# EAGLE library part AN12941A (library Audio-Power-amplifier)
Audio power IC for notebook PC
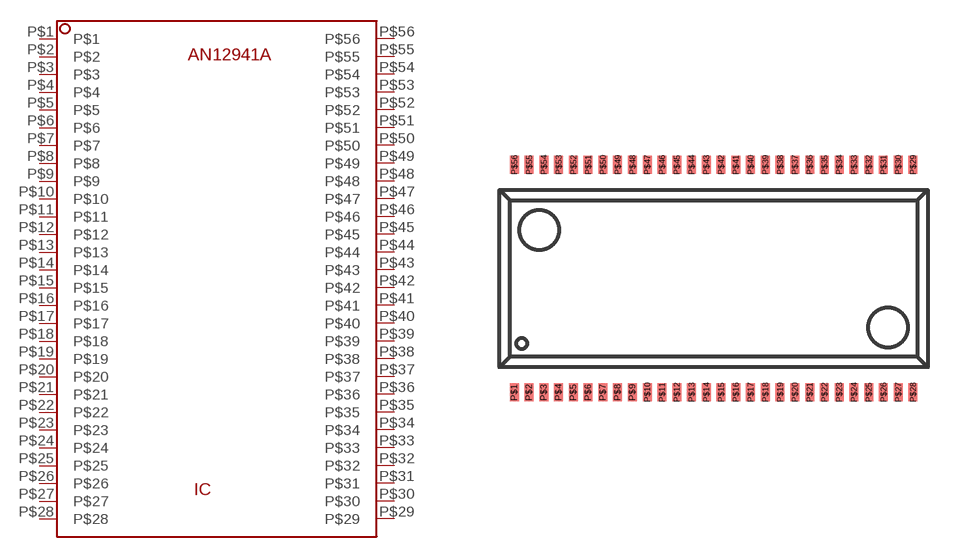
[diagram p50: symbol with the pads of HSOP056-P-0300A; footprint HSOP056-P-0300A]

Designator prefix IC

## AN12941A  [HSOP056-P-0300A]
P$1  P$1  pwr
P$2  P$2
P$3  P$3
P$4  P$4  in
P$5  P$5
P$6  P$6
P$7  P$7
P$8  P$8
P$9  P$9
P$10  P$10
P$11  P$11
P$12  P$12
P$13  P$13
P$14  P$14
P$15  P$15  pwr
P$16  P$16  in
P$17  P$17
P$18  P$18
P$19  P$19
P$20  P$20  pwr
P$21  P$21
P$22  P$22
P$23  P$23  pwr
P$24  P$24  out
P$25  P$25  out
P$26  P$26  out
P$27  P$27  out
P$28  P$28  pwr
P$29  P$29  pwr
P$30  P$30  out
P$31  P$31  out
P$32  P$32  out
P$33  P$33  out
P$34  P$34  pwr
P$35  P$35
P$36  P$36
P$37  P$37  pwr
P$38  P$38
P$39  P$39  out
P$40  P$40
P$41  P$41  in
P$42  P$42  pwr
P$43  P$43  out
P$44  P$44  out
P$45  P$45
P$46  P$46  out
P$47  P$47  in
P$48  P$48  out
P$49  P$49  out
P$50  P$50  in
P$51  P$51  out
P$52  P$52  in
P$53  P$53
P$54  P$54  in
P$55  P$55  pwr
P$56  P$56  in

## Footprint HSOP056-P-0300A (pad centres in mm)
smd 0.305 x 0.61: P$1 -7,-3.85; P$2 -6.5,-3.85; P$3 -6,-3.85; P$4 -5.5,-3.85; P$5 -5,-3.85; P$6 -4.5,-3.85; P$7 -4,-3.85; P$8 -3.5,-3.85; P$9 -3,-3.85; P$10 -2.5,-3.85; P$11 -2,-3.85; P$12 -1.5,-3.85; P$13 -1,-3.85; P$14 -0.5,-3.85; P$15 0,-3.85; P$16 0.5,-3.85; P$17 1,-3.85; P$18 1.5,-3.85; P$19 2,-3.85; P$20 2.5,-3.85; P$21 3,-3.85; P$22 3.5,-3.85; P$23 4,-3.85; P$24 4.5,-3.85; P$25 5,-3.85; P$26 5.5,-3.85; P$27 6,-3.85; P$28 6.5,-3.85; P$29 6.5,3.85; P$30 6,3.85; P$31 5.5,3.85; P$32 5,3.85; P$33 4.5,3.85; P$34 4,3.85; P$35 3.5,3.85; P$36 3,3.85; P$37 2.5,3.85; P$38 2,3.85; P$39 1.5,3.85; P$40 1,3.85; P$41 0.5,3.85; P$42 0,3.85; P$43 -0.5,3.85; P$44 -1,3.85; P$45 -1.5,3.85; P$46 -2,3.85; P$47 -2.5,3.85; P$48 -3,3.85; P$49 -3.5,3.85; P$50 -4,3.85; P$51 -4.5,3.85; P$52 -5,3.85; P$53 -5.5,3.85; P$54 -6,3.85; P$55 -6.5,3.85; P$56 -7,3.85